# Altium footprint library SMD_DQ.PcbLib: 16 footprints
Each footprint in its own frame and in the unit in brackets; x right, y up, seen from the top. Pads: shape width x height; smd on the part's side, far side on the other; paste and mask are expansions set on the pad; w line width, h text height; cw(c..) or ccw(c..) is an arc to the next point about the centre after c.
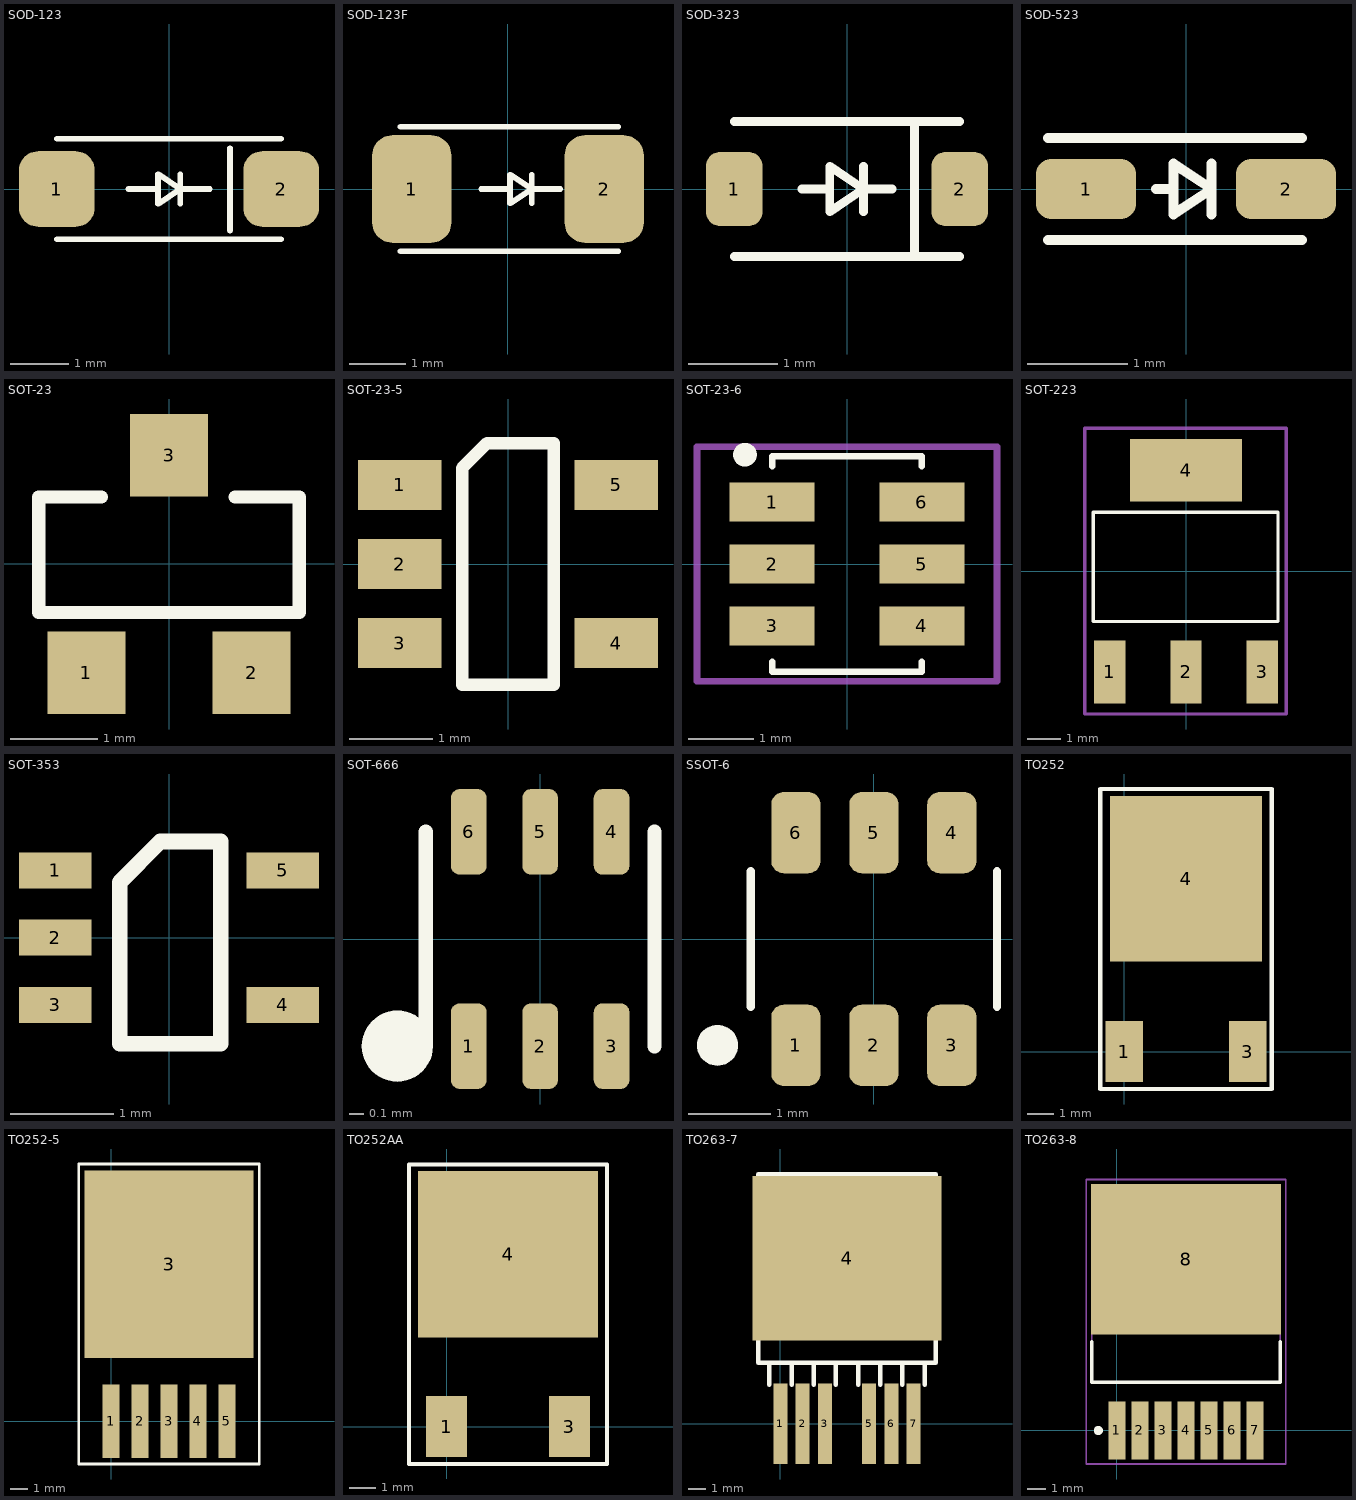
[diagram p0: the footprints below, top view; thin cyan lines are the x and y axes]

## SOD-123 [mm] "SOD-123"
pads (2):
  rrect50% 1.3x1.3 smd: 1(-1.925,0) 2(1.925,0)
Top Overlay:
  lines w0.1: -1.925,-0.864 1.925,-0.864 ; -1.925,0.864 1.925,0.864 ; -0.696,0 -0.188,0 ; 0.193,-0.254 0.193,0.254 ; 0.701,0 0.193,0 ; 1.047,-0.711 1.047,0.7 ; 0.193,0 -0.188,-0.254 -0.188,0.254 0.193,0
3D body "User Library-SOD3716X14.STEP": height 1.35, standoff 0, extent -1.9,-0.787 1.8,0.762

## SOD-123F [mm] "SOD-123"
pads (2):
  rrect50% 1.4x1.9 smd: 1(-1.7,0) 2(1.7,0)
Top Overlay:
  lines w0.1: -1.9,-1.1 1.95,-1.1 ; -1.9,1.1 1.95,1.1 ; -0.471,0 0.037,0 ; 0.418,-0.254 0.418,0.254 ; 0.926,0 0.418,0 ; 1.272,-0.711 1.272,0.7 ; 0.418,0 0.037,-0.254 0.037,0.254 0.418,0
3D body "User Library-SOD-123FL CASE 498.step": height 0.95, standoff 0, extent -1.763,-0.825 1.837,0.825

## SOD-323 [mil] "SOD323"
pads (2):
  rrect50% 25x33 smd: 1(-50,0) 2(50,0)
Top Overlay:
  lines w3.94: -50,-30 50,-30 ; -50,30 50,30 ; -20,0 -7.63,0 ; 7.37,-10 7.37,10 ; 20,0 7.37,0 ; 30,-30 30,30 ; 7.37,0 -7.63,10 -7.63,-10 7.37,0
3D body "User Library-SOD2513X11.STEP": height 43.31, standoff 0, extent -53.78,-24.6 52.52,24.61

## SOD-523 [mm] "SOD523"
pads (2):
  rrect50% 1x0.6 smd: 1(-1,0) 2(1,0)
Top Overlay:
  lines w0.1: -1.381,-0.508 1.159,-0.508 ; -1.381,0.508 1.159,0.508 ; -0.3,0 -0.124,0 ; 0.257,-0.254 0.257,0.254 ; -0.124,-0.254 0.257,0 -0.124,0.254 -0.124,-0.254
3D body "SW3dPS-SOD523.STEP": height 0.71, standoff 0, extent -0.915,-0.424 0.915,0.424

## SOT-23 [mm]
pads (3):
  rect 0.9x0.95 smd: 1(-0.95,-1.25) 2(0.95,-1.25) 3(0,1.25)
Top Overlay:
  lines w0.152: -0.78,0.77 -1.499,0.77 -1.499,-0.559 1.499,-0.559 1.499,0.77 0.76,0.77
3D body "CircuitWorks-SOT-23.step": height 1.09, standoff -0.01, extent -1.5,-1.25 1.5,1.25

## SOT-23-5 [mm]
pads (5):
  rect 1x0.6 smd paste-0.05: 1(-1.3,0.95) 2(-1.3,0) 3(-1.3,-0.95) 4(1.3,-0.95) 5(1.3,0.95)
Top Overlay:
  lines w0.152: -0.55,-1.45 0.55,-1.45 0.55,1.45 -0.25,1.45 -0.55,1.15 -0.55,-1.45
3D body "User Library-SOT23-5-1.STEP": height 1.3, standoff 0, extent -1.479,-1.515 1.521,1.485

## SOT-23-6 [mm]
height 1.3
pads (6):
  rect 1.3x0.6 smd paste-0.05: 1(-1.15,0.95) 2(-1.15,0) 3(-1.15,-0.95) 4(1.15,-0.95) 5(1.15,0) 6(1.15,0.95)
Top Overlay:
  circle w0.25: c-1.565,1.676 r0.056
  lines w0.1: -1.143,-1.5 -1.143,-1.651 1.143,-1.651 1.143,-1.5 ; -1.143,1.5 -1.143,1.651 1.143,1.651 1.143,1.5
Mechanical 15:
  lines w0.1: -2.3,-1.8 -2.3,1.8 2.3,1.8 2.3,-1.8 -2.3,-1.8
3D body "User Library-SOT-23-6-3.step": height 0.86, standoff 0, extent -1.405,-1.5 1.405,1.5

## SOT-223 [mm] "for MCP1804"
pads (4):
  rect 0.95x1.9 smd: 1(-2.3,-3.05) 2(0,-3.05) 3(2.3,-3.05)
  rect 3.4x1.9 smd: 4(0,3.05)
Top Overlay:
  lines w0.1: -2.808,-1.526 2.78,-1.526 2.78,1.776 -2.808,1.776 -2.808,-1.526
Mechanical 15:
  lines w0.1: -3.062,-4.32 -3.062,4.316 3.034,4.316 3.034,-4.32 -3.062,-4.32
3D body "SW3dPS-SOT-223-1.STEP": height 1.59, standoff -0.06, extent -3.264,-3.248 3.236,3.752

## SOT-353 [mm]
pads (5):
  rect 0.7x0.35 smd paste-0.05: 1(-1.1,0.65) 2(-1.1,0) 3(-1.1,-0.65) 4(1.1,-0.65) 5(1.1,0.65)
Top Overlay:
  lines w0.152: -0.477,-1.026 -0.477,0.536 -0.084,0.929 0.5,0.929 0.5,-1.026 -0.477,-1.026
3D body "User Library-SOT353-1.STEP": height 1.1, standoff 0, extent -1.208,-1.11 1.192,1.09

## SOT-666 [mm] "SuperSOT-6"
pads (7):
  rrect50% 0.25x0.6 smd paste-0.03: 1(-0.5,-0.75) 2(0,-0.75) 3(0.5,-0.75) 4(0.5,0.75) 5(0,0.75) 6(-0.5,0.75)
  round 0.5 on Top Overlay: ""(-1,-0.75)
Top Overlay:
  lines w0.1: -0.8,-0.75 -0.8,0.75 ; 0.8,-0.75 0.8,0.75
3D body "User Library-SOT50P160X60-6.step": height 0.6, standoff 0, extent -0.795,-0.8 0.796,0.8

## SSOT-6 [mm] "SuperSOT-6"
pads (7):
  rrect50% 0.6x0.99 smd paste-0.05: 1(-0.95,-1.295) 2(0,-1.295) 3(0.95,-1.295) 4(0.95,1.295) 5(0,1.295) 6(-0.95,1.295)
  round 0.5 on Top Overlay: ""(-1.905,-1.295)
Top Overlay:
  lines w0.1: -1.5,-0.825 -1.5,0.825 ; 1.5,-0.825 1.5,0.825
3D body "User Library-SSOT-6.STEP": height 1.05, standoff 0, extent -1.5,-1.5 1.5,1.5

## TO252 [mil]
pads (3):
  rect 55x90 smd: 1(0,0) 3(181.1,0)
  rect 224x243.31 smd: 4(90.55,253.94)
Top Overlay:
  lines w6: -35.43,-55.12 216.54,-55.12 216.54,385.83 -35.43,385.83 -35.43,-55.12
3D body "SW3dPS-DPAK-1.STEP": height 92.22, standoff -2.85, extent -37.4,-28.31 220.08,362.96

## TO252-5 [mm]
pads (6):
  rect 1.02x4.32 smd: 1(0,0) 2(1.7,0) 3(3.4,0) 4(5.1,0) 5(6.8,0)
  rect 9.91x11 smd: 3(3.4,9.221)
Top Overlay:
  lines w0.152: -1.9,-2.5 -1.9,15.1 8.7,15.1 8.7,-2.5 -1.9,-2.5
3D body: height 1.5, standoff 0, extent -0.9,9.921 7.7,13.9
3D body: height 4, standoff 0.05, extent -1.3,2.7 8,12.5
3D body: height 0.6, standoff 0, extent 6.5,-0.7 7.1,0.4
3D body: height 2, standoff 0, extent 6.5,0.2 7.1,0.6
3D body: height 2, standoff 1.4, extent 6.5,0.2 7.1,2.7
3D body: height 0.6, standoff 0, extent 4.8,-0.7 5.4,0.4
3D body: height 2, standoff 0, extent 4.8,0.2 5.4,0.6
3D body: height 2, standoff 1.4, extent 4.8,0.2 5.4,2.7
3D body: height 0.6, standoff 0, extent 3.1,-0.7 3.7,0.4
3D body: height 2, standoff 0, extent 3.1,0.2 3.7,0.6
3D body: height 2, standoff 1.4, extent 3.1,0.2 3.7,2.7
3D body: height 0.6, standoff 0, extent 1.4,-0.7 2,0.4
3D body: height 2, standoff 0, extent 1.4,0.2 2,0.6
3D body: height 2, standoff 1.4, extent 1.4,0.2 2,2.7
3D body: height 2, standoff 1.4, extent -0.3,0.2 0.3,2.7
3D body: height 2, standoff 0, extent -0.3,0.2 0.3,0.6
3D body: height 0.6, standoff 0, extent -0.3,-0.7 0.3,0.4

## TO252AA [mm]
pads (3):
  rect 1.524x2.286 smd: 1(0,0) 3(4.6,0)
  rect 6.74x6.23 smd: 4(2.3,6.45)
Top Overlay:
  lines w0.152: -1.4,-1.4 6,-1.4 6,9.8 -1.4,9.8 -1.4,-1.4
3D body "SW3dPS-DPAK-1.STEP": height 2.34, standoff -0.07, extent -0.975,-0.969 5.565,8.969

## TO263-7 [mm]
pads (7):
  rect 0.8x4.6 smd: 1(0,0) 2(1.27,0) 3(2.54,0) 5(5.08,0) 6(6.35,0) 7(7.62,0)
  rect 10.8x9.4 smd: 4(3.81,9.48)
Top Overlay:
  lines w0.254: -0.635,2.235 -0.635,3.505 ; 0.635,2.235 0.635,3.505 ; 1.905,2.235 1.905,3.505 ; 3.175,2.235 3.175,3.505 ; 4.445,2.235 4.445,3.505 ; 5.715,2.235 5.715,3.505 ; 6.985,2.235 6.985,3.505 ; 8.255,2.235 8.255,3.505 ; -1.27,12.395 8.89,12.395 ; -1.27,12.395 -1.27,3.505 8.89,3.505 8.89,12.395 ; -1.27,12.395 -1.27,14.3 8.89,14.3 8.89,12.395
3D body "SW3dPS-TO263-7S.STEP": height 4.78, standoff -0.02, extent -1.184,-1.853 8.816,13.817

## TO263-8 [mm] "D2-PAK, 8-Leads, Body 8.9x10.1mm, Pitch 1.27mm, Lead Span 14.2mm, IPC Medium Density"
height 4.65
pads (8):
  rect 0.95x3.2 smd: 1(0,0) 2(1.27,0) 3(2.54,0) 4(3.81,0) 5(5.08,0) 6(6.35,0) 7(7.62,0)
  rect 10.5x8.3 smd: 8(3.81,9.45)
Top Overlay:
  circle w0.25: c-1.025,0 r0.125
  lines w0.2: -1.39,4.9 -1.39,2.65 9.01,2.65 9.01,4.9
Mechanical 13:
  lines w0.1: -1.39,2.65 -1.39,12.05 9.01,12.05 9.01,2.65 -1.39,2.65
Mechanical 15:
  lines w0.1: 3.31,6 4.31,6 ; 3.81,5.5 3.81,6.5 ; -1.69,-1.85 -1.69,13.85 9.31,13.85 9.31,-1.85 -1.69,-1.85
3D body "SW3dPS-TO263-7-1.STEP": height 4.68, standoff -0.12, extent -1.164,-1.358 8.836,14.312